# Altium footprint library Components.PcbLib: 16 footprints
Each footprint in its own frame and in the unit in brackets; x right, y up, seen from the top. Pads: shape width x height; smd on the part's side, far side on the other; paste and mask are expansions set on the pad; w line width, h text height; cw(c..) or ccw(c..) is an arc to the next point about the centre after c.
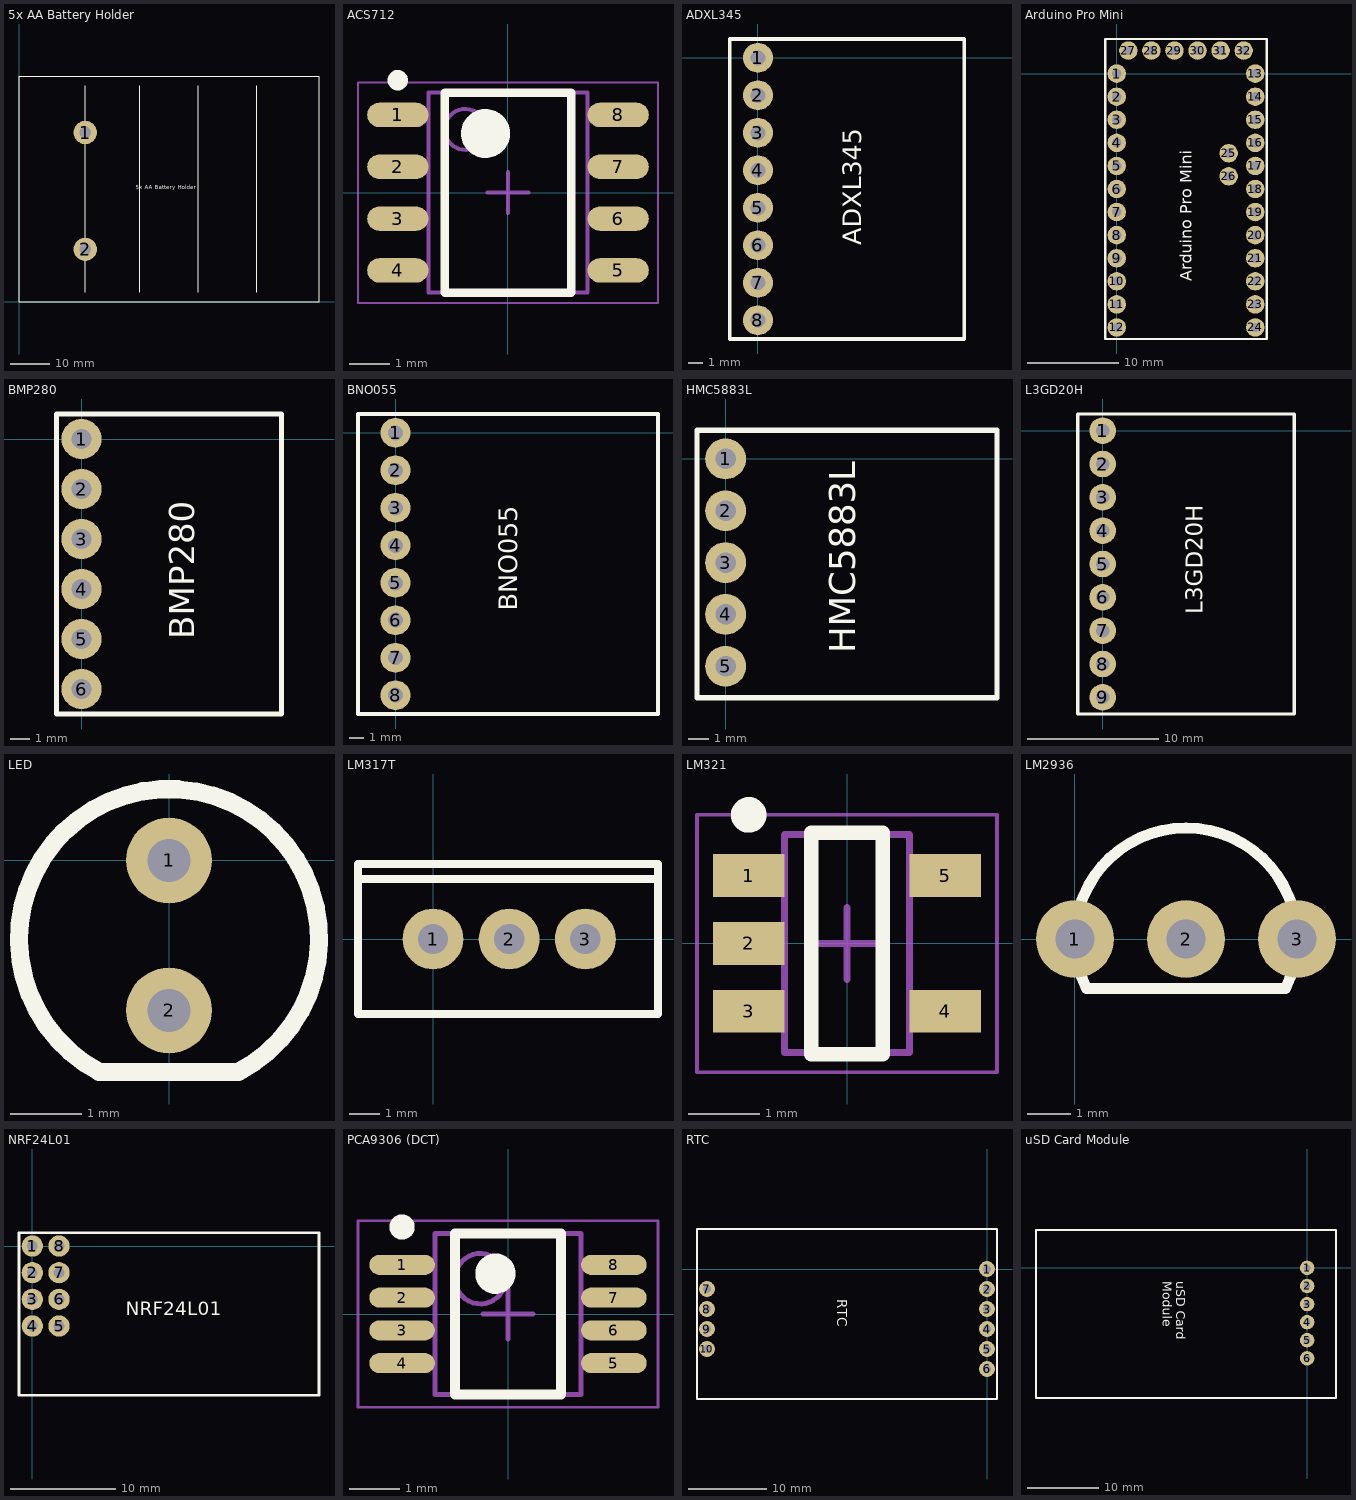
[diagram p0: the footprints below, top view; thin cyan lines are the x and y axes]

## 5x AA Battery Holder [mm]
pads (2):
  round 6 hole 3 mask+0.102: 1(17,43.5)
  round 6 hole 3: 2(17,13.5)
Top Overlay:
  lines w0.254: 17,2.5 17,55.5 ; 31,2.5 31,55.5 ; 46,2.5 46,55.5 ; 61,2.5 61,55.5 ; 0,0 0,58 77,58 77,0 0,0
  text "5x AA Battery Holder" at 30,29 h1.02

## ACS712 [mm]
height 1.9
pads (8):
  oval 1.5x0.6 smd: 1(-2.7,1.905) 2(-2.7,0.635) 3(-2.7,-0.635) 4(-2.7,-1.905) 5(2.7,-1.905) 6(2.7,-0.635) 7(2.7,0.635) 8(2.7,1.905)
Top Overlay:
  circle w0.6: c-0.55,1.45 r0.3
  circle w0.25: c-2.7,2.755 r0.125
  lines w0.2: -1.55,-2.45 1.55,-2.45 1.55,2.45 -1.55,2.45 -1.55,-2.45
Mechanical 13:
  circle w0.1: c-1.05,1.55 r0.5
  lines w0.1: -1.95,-2.45 1.95,-2.45 1.95,2.45 -1.95,2.45 -1.95,-2.45
Mechanical 15:
  lines w0.05: -3.675,-2.7 3.675,-2.7 3.675,2.7 -3.675,2.7 -3.675,-2.7
  lines w0.1: -0.5,0 0.5,0 ; 0,-0.5 0,0.5
3D body "ACS712a.step": height 1.9, standoff 0, extent -3,-2.45 3,2.45

## ADXL345 [mil]
pads (8):
  round 80 hole 40: 1(0,0) 2(0,-100) 3(0,-200) 4(0,-300) 5(0,-400) 6(0,-500) 7(0,-600) 8(0,-700)
Top Overlay:
  lines w10: -75,-750 550,-750 550,50 -75,50 -75,-750
  text "ADXL345" at 275,-500 h50

## Arduino Pro Mini [mil]
pads (32):
  round 80 hole 40: 1(0,0) 2(0,-100) 3(0,-200) 4(0,-300) 5(0,-400) 6(0,-500) 7(0,-600) 8(0,-700) 9(0,-800) 10(0,-900) 11(0,-1000) 12(0,-1100) 13(600,0) 14(600,-100) 15(600,-200) 16(600,-300) 17(600,-400) 18(600,-500) 19(600,-600) 20(600,-700) 21(600,-800) 22(600,-900) 23(600,-1000) 24(600,-1100) 25(485,-345) 26(485,-445) 27(50,100) 28(150,100) 29(250,100) 30(350,100) 31(450,100) 32(550,100)
Top Overlay:
  lines w10: -50,-1150 650,-1150 650,150 -50,150 -50,-1150
  text "Arduino Pro Mini" at 325,-900 h50

## BMP280 [mil]
pads (6):
  round 80 hole 40: 1(0,0) 2(0,-100) 3(0,-200) 4(0,-300) 5(0,-400) 6(0,-500)
Top Overlay:
  lines w10: -50,-550 400,-550 400,50 -50,50 -50,-550
  text "BMP280" at 225,-400 h50

## BNO055 [mil]
pads (8):
  round 80 hole 40: 1(0,0) 2(0,-100) 3(0,-200) 4(0,-300) 5(0,-400) 6(0,-500) 7(0,-600) 8(0,-700)
Top Overlay:
  lines w10: -100,-750 700,-750 700,50 -100,50 -100,-750
  text "BNO055" at 325,-475 h50

## HMC5883L [mm]
pads (5):
  round 2 hole 1: 1(0,0) 2(0,-2.54) 3(0,-5.08) 4(0,-7.62) 5(0,-10.16)
Top Overlay:
  lines w0.254: -1.4,-11.7 13.3,-11.7 13.3,1.4 -1.4,1.4 -1.4,-11.7
  text "HMC5883L" at 6.35,-9.525 h1.27

## L3GD20H [mil]
pads (9):
  round 80 hole 40: 1(0,0) 2(0,-100) 3(0,-200) 4(0,-300) 5(0,-400) 6(0,-500) 7(0,-600) 8(0,-700) 9(0,-800)
Top Overlay:
  lines w10: -75,-850 -75,50 575,50 575,-850 -75,-850
  text "L3GD20H" at 300,-550 h50

## LED [mm]
pads (2):
  round 1.2 hole 0.6: 1(0,0) 2(0,-2.1)
Top Overlay:
  lines w0.254: -0.978,-2.958 cw(c0,-1.1) 0.971,-2.962 -0.978,-2.958

## LM317T [mil]
pads (3):
  round 80 hole 40: 1(0,0) 2(100,0) 3(200,0)
Top Overlay:
  lines w10: -98.43,78.74 295.28,78.74 ; -98.43,-98.43 295.28,-98.43 295.28,98.43 -98.43,98.43 -98.43,-98.43

## LM321 [mm]
height 1.45
pads (5):
  rect 1x0.6 smd: 1(-1.375,0.95) 2(-1.375,0) 3(-1.375,-0.95) 4(1.375,-0.95) 5(1.375,0.95)
Top Overlay:
  circle w0.25: c-1.375,1.8 r0.125
  lines w0.2: -0.5,-1.55 0.5,-1.55 0.5,1.55 -0.5,1.55 -0.5,-1.55
Mechanical 13:
  lines w0.1: -0.875,-1.525 -0.875,1.525 0.875,1.525 0.875,-1.525 -0.875,-1.525
Mechanical 15:
  lines w0.05: -2.1,-1.8 -2.1,1.8 2.1,1.8 2.1,-1.8 -2.1,-1.8
  lines w0.1: -0.5,0 0.5,0 ; 0,-0.5 0,0.5
3D body "SOT95P280X145-5N.step": height 1.45, standoff 0, extent -1.5,-1.525 1.5,1.525

## LM2936 [mil]
pads (3):
  round 70 hole 35: 1(0,0) 2(100,0) 3(200,0)
Top Overlay:
  lines w10: 10.56,-44.72 cw(c100,0) 189.44,-44.72 10.56,-44.72

## NRF24L01 [mil]
pads (8):
  round 80 hole 40: 1(0,0) 2(0,-100) 3(0,-200) 4(0,-300) 5(100,-300) 6(100,-200) 7(100,-100) 8(100,0)
Top Overlay:
  lines w10: -50,-560 1075,-560 1075,50 -50,50 -50,-560
  text "NRF24L01" at 350,-260 h50

## PCA9306 (DCT) [mm] "Dual Bidirectional I2C Voltage Shifter"
height 1.3
pads (8):
  oval 1.3x0.4 smd: 1(-2.1,0.975) 2(-2.1,0.325) 3(-2.1,-0.325) 4(-2.1,-0.975) 5(2.1,-0.975) 6(2.1,-0.325) 7(2.1,0.325) 8(2.1,0.975)
Top Overlay:
  circle w0.4: c-0.25,0.8 r0.2
  circle w0.25: c-2.1,1.725 r0.125
  lines w0.2: -1.05,-1.6 1.05,-1.6 1.05,1.6 -1.05,1.6 -1.05,-1.6
Mechanical 13:
  circle w0.1: c-0.55,0.7 r0.5
  lines w0.1: -1.45,-1.6 1.45,-1.6 1.45,1.6 -1.45,1.6 -1.45,-1.6
Mechanical 15:
  lines w0.05: -2.975,-1.85 2.975,-1.85 2.975,1.85 -2.975,1.85 -2.975,-1.85
  lines w0.1: -0.5,0 0.5,0 ; 0,-0.5 0,0.5
3D body "PCA9306Wiz.step": height 1.4, standoff 0.1, extent -2,-1.6 2,1.6

## RTC [mil]
pads (10):
  round 80 hole 40: 1(0,0) 2(0,-100) 3(0,-200) 4(0,-300) 5(0,-400) 6(0,-500) 7(-1400,-100) 8(-1400,-200) 9(-1400,-300) 10(-1400,-400)
Top Overlay:
  lines w10: -1450,-650 50,-650 50,200 -1450,200 -1450,-650
  text "RTC" at -750,-150 h50

## uSD Card Module [mil]
pads (6):
  round 80 hole 40: 1(0,0) 2(0,-100) 3(0,-200) 4(0,-300) 5(0,-400) 6(0,-500)
Top Overlay:
  lines w10: -1500,-720 -1500,210 160,210 160,-720 -1500,-720
  text "uSD Card / Module" at -800,-75 h50